# EAGLE library part AT45DB641E-SHN (library tagps)
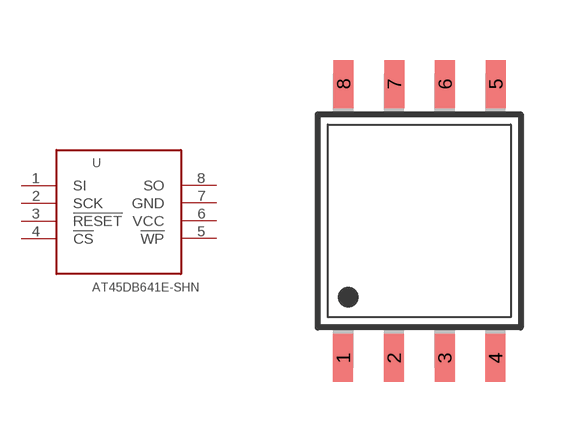
[diagram p4: symbol with the pads of JSOP-08; footprint JSOP-08]

Designator prefix -

## AT45DB641E-SHNJSOP-08  [JSOP-08]
1  SI  in
2  SCK  in
3  !RESET  in
4  !CS  in
5  !WP  in
6  VCC  pwr
7  GND  pwr
8  SO  out

## Footprint JSOP-08 (pad centres in mm)
JEDEC Small Outline Package
smd 0.5 x 1.2: 1 -1.905,-3.429; 2 -0.635,-3.429; 3 0.635,-3.429; 4 1.905,-3.429; 5 1.913,3.429; 6 0.643,3.429; 7 -0.627,3.429; 8 -1.897,3.429